# EAGLE library part TE3/9 (library busbar)
BUS BAR 9 connections, grid 3 TE
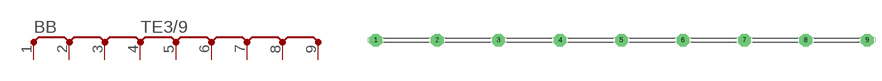
[diagram p0: symbol with the pads of TE3/9; footprint TE3/9]

Designator prefix BB

## TE3/9  [TE3/9]
1  P  pas
2  P  pas
3  P  pas
4  P  pas
5  P  pas
6  P  pas
7  P  pas
8  P  pas
9  P  pas

## Footprint TE3/9 (pad centres in mm)
BUS BAR 9 connections, grid 3 TE
drill 1.6 pad 3.15 octagon: 1 -60.96,0; 2 -45.72,0; 3 -30.48,0; 4 -15.24,0; 5 0,0; 6 15.24,0; 7 30.48,0; 8 45.72,0; 9 60.96,0